# EAGLE library part SCREWTERM_8P (library ME507)
PHOENIX CONNECTOR
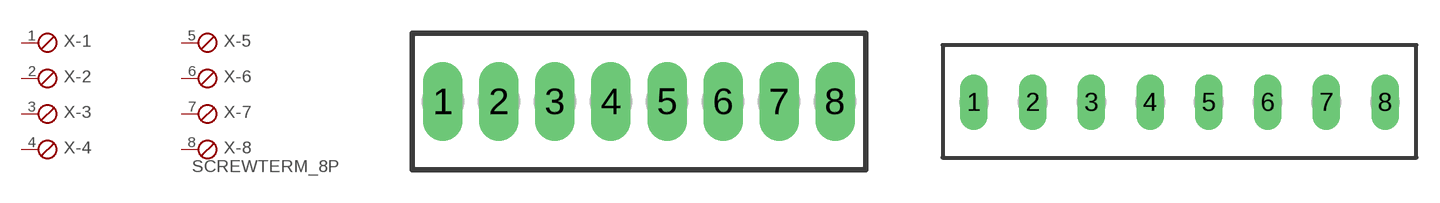
[diagram p2: symbol with the pads of 8POL254; footprints 8POL254, 8POL381]

Designator prefix X; gates -1=SKB -2=SKB -3=SKB -4=SKB -5=SKB -6=SKB -7=SKB -8=SKBV

## SCREWTERM_8P_254  [8POL254]
1  -1:1  pas
2  -2:1  pas
3  -3:1  pas
4  -4:1  pas
5  -5:1  pas
6  -6:1  pas
7  -7:1  pas
8  -8:1  pas

## SCREWTERM_8P_381  [8POL381]
Pads as for 8POL254

## SCREWTERM_8P_508  [8POL508]
Pads as for 8POL254

## Footprint 8POL254 (pad centres in mm)
PHOENIX CONNECTOR
drill 1.2 long: 1 -8.89,0; 2 -6.35,0; 3 -3.81,0; 4 -1.27,0; 5 1.27,0; 6 3.81,0; 7 6.35,0; 8 8.89,0

## Footprint 8POL381 (pad centres in mm)
PHOENIX CONNECTOR
drill 1.2 long: 1 -13.335,0; 2 -9.525,0; 3 -5.715,0; 4 -1.905,0; 5 1.905,0; 6 5.715,0; 7 9.525,0; 8 13.335,0

## Footprint 8POL508 (pad centres in mm)
PHOENIX CONNECTOR
drill 1.4 long: 1 -17.78,0; 2 -12.7,0; 3 -7.62,0; 4 -2.54,0; 5 2.54,0; 6 7.62,0; 7 12.7,0; 8 17.78,0